# Altium footprint library CartSimple.PCBLIB: 166 footprints (part 8 of 11)
Each footprint in its own frame and in the unit in brackets; x right, y up, seen from the top. Pads: shape width x height; smd on the part's side, far side on the other; paste and mask are expansions set on the pad; w line width, h text height; cw(c..) or ccw(c..) is an arc to the next point about the centre after c.
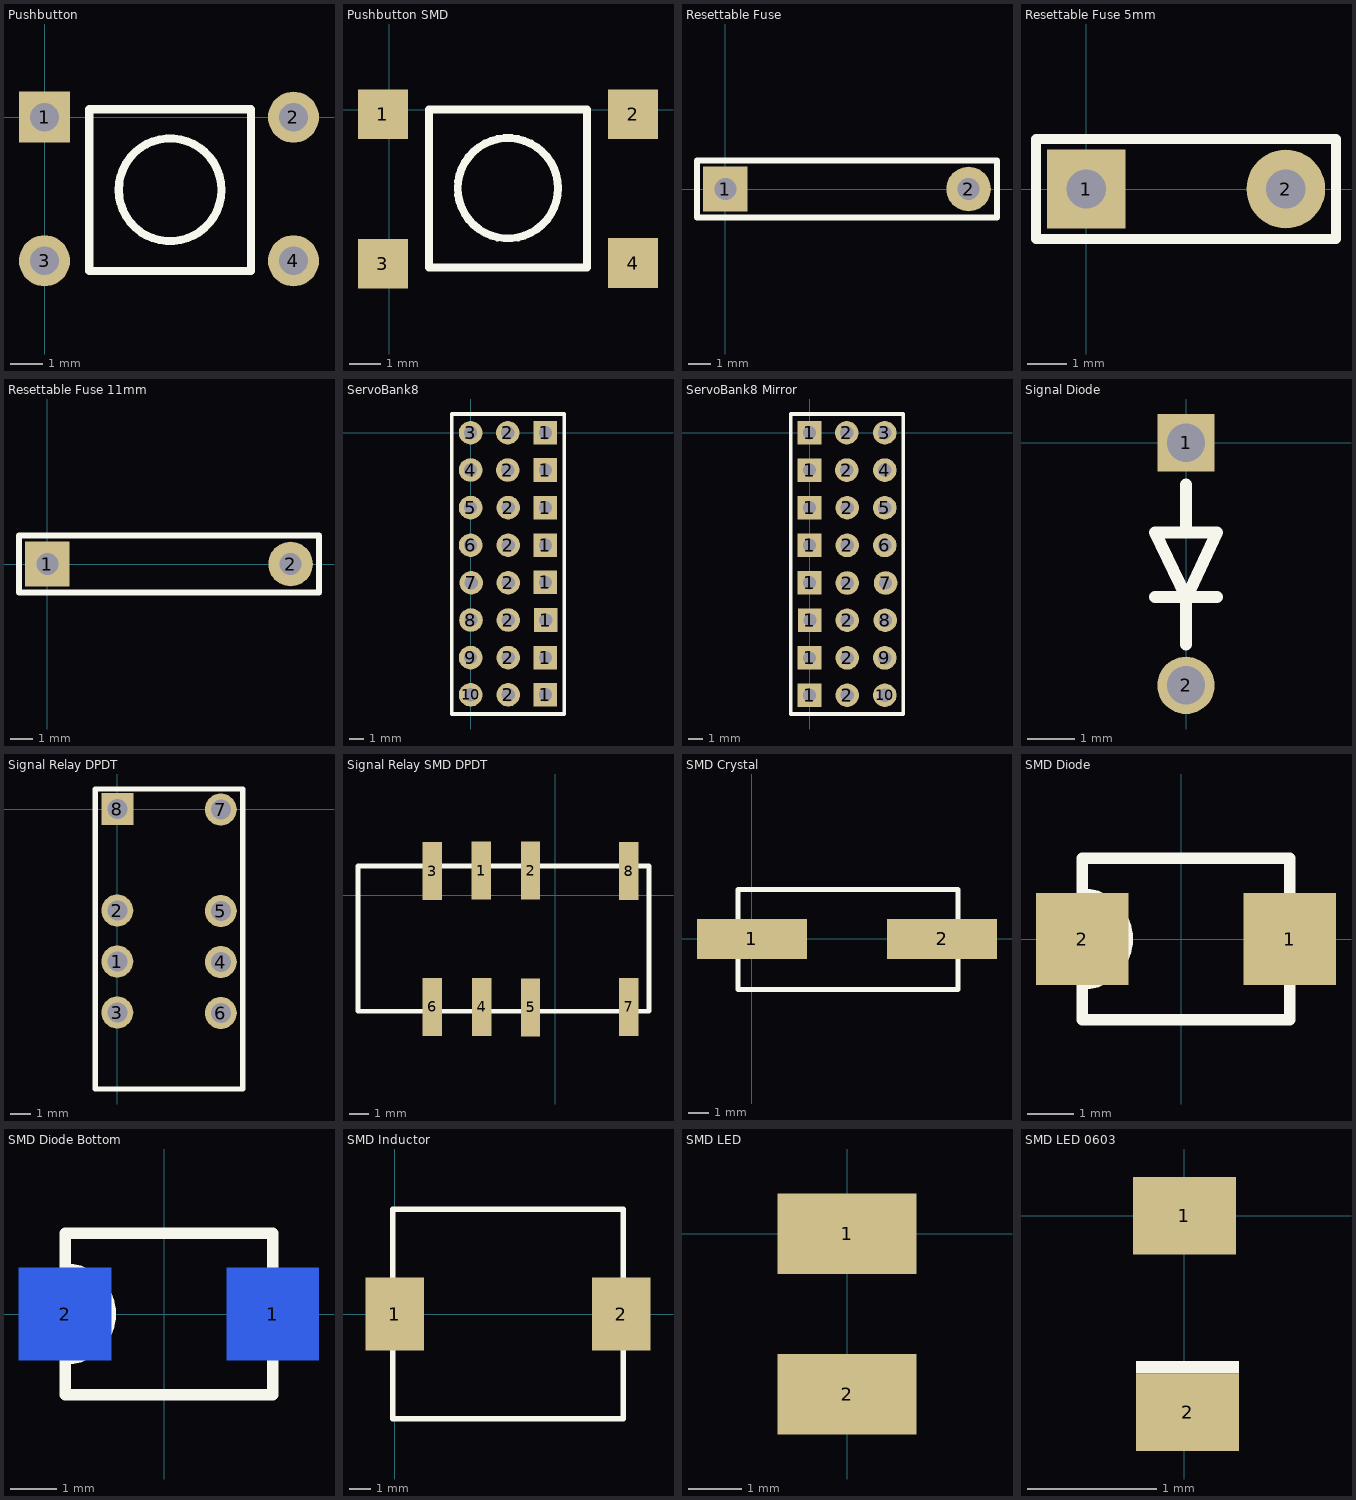
[diagram p7: the footprints below, top view; thin cyan lines are the x and y axes]

## Pushbutton [mm]
pads (4):
  rect 1.6x1.6 hole 0.9: 1(0,0)
  round 1.6 hole 0.9: 2(7.8,0) 3(0,-4.5) 4(7.8,-4.5)
Top Overlay:
  circle w0.254: c3.934,-2.275 r1.609
  lines w0.254: 1.4,-4.825 6.475,-4.825 6.475,0.25 1.4,0.25 1.4,-4.825

## Pushbutton SMD [mm]
pads (4):
  rect 1.6x1.6 smd: 1(-0.2,-0.15) 2(7.825,-0.15) 3(-0.2,-4.95) 4(7.825,-4.925)
Top Overlay:
  circle w0.254: c3.809,-2.525 r1.609
  lines w0.254: 1.275,-5.075 1.275,0 6.35,0 6.35,-5.075 1.275,-5.075

## Resettable Fuse [mm] "Raychem"
pads (2):
  rect 2x2 hole 1: 1(0,0)
  round 2 hole 1: 2(10.9,0)
Top Overlay:
  lines w0.254: -1.275,-1.275 -1.275,1.275 12.175,1.275 12.175,-1.275 -1.275,-1.275

## Resettable Fuse 5mm [mm]
pads (2):
  rect 2x2 hole 1: 1(0,0)
  round 2 hole 1: 2(5.075,0)
Top Overlay:
  lines w0.254: -1.275,-1.275 -1.275,1.275 6.35,1.275 6.35,-1.275 -1.275,-1.275

## Resettable Fuse 11mm [mm]
pads (2):
  rect 2x2 hole 1: 1(0,0)
  round 2 hole 1: 2(10.9,0)
Top Overlay:
  lines w0.254: -1.275,-1.275 12.175,-1.275 12.175,1.275 -1.275,1.275 -1.275,-1.275

## ServoBank8 [mm]
pads (24):
  rect 1.6x1.6 hole 0.9: 1(5.075,-17.775) 1(5.075,-15.25) 1(5.075,-10.15) 1(5.075,-7.625) 1(5.075,-5.075) 1(5.075,-2.525) 1(5.075,0) 1(5.1,-12.7)
  round 1.6 hole 0.9: 2(2.525,-2.525) 2(2.525,0) 2(2.55,-17.775) 2(2.55,-15.25) 2(2.55,-12.7) 2(2.55,-10.175) 2(2.55,-7.625) 2(2.55,-5.075) 3(0,0) 4(0,-2.525) 5(0,-5.075) 6(0,-7.625) 7(0.05,-10.175) 8(0.025,-12.7) 9(0,-15.25) 10(0,-17.775)
Top Overlay:
  lines w0.254: -1.275,-19.075 6.35,-19.075 6.35,1.275 -1.275,1.275 -1.275,-19.075

## ServoBank8 Mirror [mm]
pads (24):
  rect 1.6x1.6 hole 0.9: 1(0,-17.775) 1(0,-15.25) 1(0,-10.15) 1(0,-7.625) 1(0,-5.075) 1(0,-2.525) 1(0,0) 1(0.025,-12.7)
  round 1.6 hole 0.9: 2(2.525,-2.525) 2(2.525,0) 2(2.55,-17.775) 2(2.55,-15.25) 2(2.55,-12.7) 2(2.55,-10.175) 2(2.55,-7.625) 2(2.55,-5.075) 3(5.1,0) 4(5.1,-2.525) 5(5.1,-5.075) 6(5.1,-7.625) 7(5.15,-10.175) 8(5.125,-12.7) 9(5.1,-15.25) 10(5.1,-17.775)
Top Overlay:
  lines w0.254: -1.275,-19.05 6.35,-19.05 6.35,1.275 -1.275,1.275 -1.275,-19.05

## Signal Diode [mm]
pads (2):
  rect 1.2x1.2 hole 0.8: 1(0,0)
  round 1.2 hole 0.8: 2(0,-5.075)
Top Overlay:
  lines w0.254: -0.65,-3.225 0.65,-3.225 ; 0,-4.225 0,-3.225 -0.65,-1.875 0.65,-1.875 0.025,-3.225 ; 0,-1.875 0,-0.875

## Signal Relay DPDT [mm]
pads (8):
  round 1.6 hole 1: 1(0,-7.625) 2(0,-5.075) 3(0,-10.175) 4(5.175,-7.65) 5(5.175,-5.1) 6(5.175,-10.2) 7(5.175,-0.025)
  rect 1.6x1.6 hole 1: 8(0,0)
Top Overlay:
  lines w0.254: -1.1,-14 -1.1,1 6.275,1 6.275,-14 -1.1,-14

## Signal Relay SMD DPDT [mm]
pads (8):
  rect 1x3 smd: 1(-3.825,1.275) 2(-1.275,1.275) 3(-6.35,1.25) 4(-3.8,-5.75) 5(-1.275,-5.775) 6(-6.35,-5.75) 7(3.8,-5.75) 8(3.8,1.25)
Top Overlay:
  lines w0.254: -10.175,-5.975 4.825,-5.975 4.825,1.525 -10.175,1.525 -10.175,-5.975

## SMD Crystal [mm]
pads (2):
  rect 5.5x2 smd: 1(0,0) 2(9.5,0)
Top Overlay:
  lines w0.254: -0.7,-2.525 -0.7,2.475 10.3,2.475 10.3,-2.525 -0.7,-2.525

## SMD Diode [mm]
pads (2):
  rect 2x2 smd: 1(2.35,0) 2(-2.15,0)
Top Overlay:
  lines w0.254: -2.15,-0.975 ccw(c-2.15,0) -2.15,0.975 ; -2.15,-1.75 -2.15,1.75 2.35,1.75 2.35,-1.75 -2.15,-1.75

## SMD Diode Bottom [mm]
pads (2):
  rect 2x2 smd far side: 1(2.35,0) 2(-2.15,0)
Top Overlay:
  lines w0.254: -2.15,-0.975 ccw(c-2.15,0) -2.15,0.975 ; -2.15,-1.75 2.35,-1.75 2.35,1.75 -2.15,1.75 -2.15,-1.75

## SMD Inductor [mm]
pads (2):
  rect 2.8x3.5 smd: 1(0,0) 2(10.8,0)
Top Overlay:
  lines w0.254: -0.1,-5 -0.1,5 10.9,5 10.9,-5 -0.1,-5

## SMD LED [mm]
pads (2):
  rect 2.6x1.5 smd: 1(0,0) 2(0,-3)

## SMD LED 0603 [mm]
pads (2):
  rect 0.8x0.6 smd: 1(0,0) 2(0.025,-1.525)
Top Overlay:
  rectangle: -0.375,-1.225 0.425,-1.125